# Altium footprint library SS3P4M385A.PcbLib: 1 footprints
Each footprint in its own frame and in the unit in brackets; x right, y up, seen from the top. Pads: shape width x height; smd on the part's side, far side on the other; paste and mask are expansions set on the pad; w line width, h text height; cw(c..) or ccw(c..) is an arc to the next point about the centre after c.
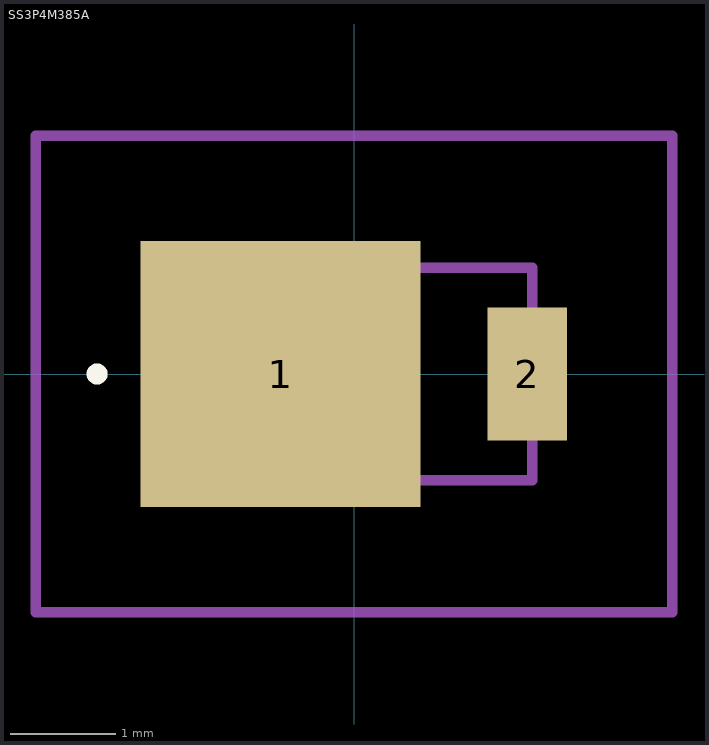
[diagram p0: the footprint, top view; thin cyan lines are the x and y axes]

## SS3P4M385A [mil]
pads (2):
  rect 105.12x100 smd: 1(-27.52,0)
  rect 30x50 smd: 2(65.04,0)
Top Overlay:
  lines w3.94: -98.43,0 -98.43,0 ; -98.43,0 ccw(c-96.46,0) -94.49,0 ; -98.43,0 cw(c-96.46,0) -94.49,0 ; -94.49,0 -94.49,0
Mechanical 15:
  lines w3.94: -66.93,-39.96 66.93,-39.96 66.93,39.96 -66.93,39.96 -66.93,-39.96
Mechanical 20:
  lines w3.94: -119.45,-89.37 119.45,-89.37 119.45,89.37 -119.45,89.37 -119.45,-89.37